# Altium schematic symbol library CornellBajaLibrary.SchLib: 160 symbols (part 2 of 2)
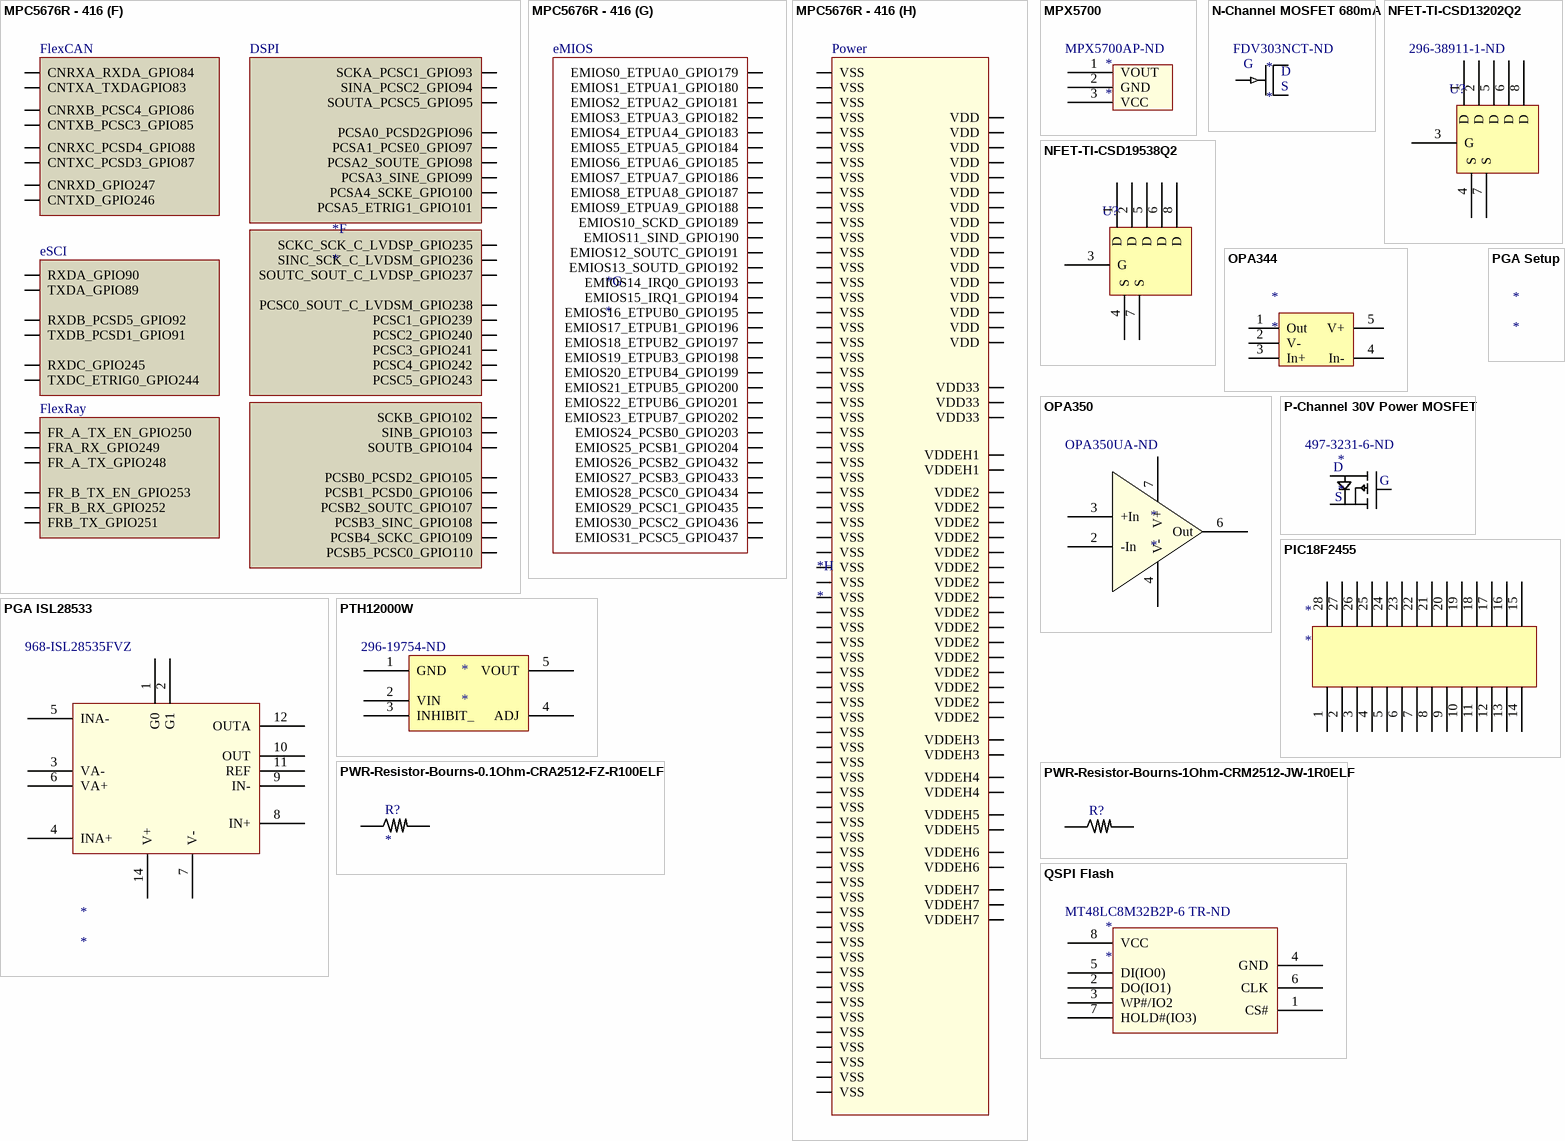
[diagram p10: symbols MPC5676R - 416 to QSPI Flash]

## MPX5700
designator *  Supplier Part Number 1: MPX5700AP-ND
Supplier 1: Digi-Key
footprint MPX5700AP
pins: 1 VOUT, 2 GND, 3 VCC

## N-Channel MOSFET 680mA
designator *  Supplier Part Number 1: FDV303NCT-ND
Supplier 1: Digi-Key
footprint N-Channel MOSFET 680mA (FDV303N)
pins: 1 G, 2 D, 3 S

## NFET-TI-CSD13202Q2
designator U?  Supplier Part Number 1: 296-38911-1-ND  (hidden comment: *)
Supplier 1: Digi-Key
footprint SON2x2
pins: 1 D, 2 D, 3 G, 4 S, 5 D, 6 D, 7 S, 8 D

## NFET-TI-CSD19538Q2
designator U?  (value not drawn)
Supplier 1: Digi-Key; Supplier Part Number 1: 296-47322-1-ND
footprint SON2x2
pins: 1 D, 2 D, 3 G, 4 S, 5 D, 6 D, 7 S, 8 D

## OPA344
designator *
footprint OPA344
pins: 1 Out, 2 V-, 3 In+, 4 In-, 5 V+

## OPA350
designator *  Supplier Part Number 1: OPA350UA-ND
High Speed A/D Buffer; Supplier 1: Digi-Key; ComponentLink1URL: http://www.ti.com/lit/ds/symlink/opa350.pdf; ComponentLink1Description: http://www.ti.com/lit/ds/symlink/opa350.pdf
footprint SOIC127P600X175-8N (SOIC, 8-Leads, Body 5.0x4.0mm (max), Pitch 1.27mm, IPC Medium Density)
pins: 2 -In, 3 +In, 4 V-, 6 Out, 7 V+

## P-Channel 30V Power MOSFET
designator *  Supplier Part Number 1: 497-3231-6-ND
Supplier 1: Digi-Key; ComponentLink1URL: http://www.st.com/web/en/resource/technical/document/datasheet/CD00001945.pdf; ComponentLink1Description: http://www.st.com/web/en/resource/technical/document/datasheet/CD00001945.pdf
footprint P-FET Power (STS5PF30L 5A)
pins: 1 G, 2 D, 3 S

## PGA ISL28533
designator *  Supplier Part Number 1: 968-ISL28535FVZ
Supplier 1: Mouser
footprint TSOP65P640X120-14N (TSOP, 14-Leads, Body 5.00x4.40mm, Pitch 0.65mm, IPC Medium Density)
pins: 1 G0, 2 G1, 3 VA-, 4 INA+, 5 INA-, 6 VA+, 7 V-, 8 IN+, 9 IN-, 10 OUT, 11 REF, 12 OUTA, 14 V+

## PGA Setup
designator *

## PIC18F2455
designator *
footprint PIC18F2455_28Lead_SMD
pins: 1, 2, 3, 4, 5, 6, 7, 8, 9, 10, 11, 12, 13, 14, 15, 16, 17, 18, 19, 20, 21, 22, 23, 24, 25, 26, 27, 28

## PTH12000W
designator *  Supplier Part Number 1: 296-19754-ND
Adj 6A 12Vin Power Module; ComponentLink1URL: http://www.ti.com/lit/ds/symlink/pth12000l.pdf; ComponentLink1Description: http://www.ti.com/lit/ds/symlink/pth12000l.pdf; Supplier 1: Digi-Key
footprint PowerModule
pins: 1 GND, 2 VIN, 3 INHIBIT_, 4 ADJ, 5 VOUT

## PWR-Resistor-Bourns-0.1Ohm-CRA2512-FZ-R100ELF
designator R?
Supplier 1: Digi-Key; Supplier Part Number 1: CRA2512-FZ-R100ELFCT-ND
footprint 2512
pins: 1, 2

## PWR-Resistor-Bourns-1Ohm-CRM2512-JW-1R0ELF
designator R?  (value not drawn)
Supplier 1: Digi-Key; Supplier Part Number 1: CRM2512-JW-1R0ELFCT-ND
footprint 2512
pins: 1, 2

## QSPI Flash
designator *  Supplier Part Number 1: MT48LC8M32B2P-6 TR-ND
Supplier 1: Digi-Key
footprint S25FL032P (SOIC, 8-Leads, Body 5.28x4.64mm, Pitch 1.27mm, IPC Medium Density)
pins: 1 CS#, 2 DO(IO1), 3 WP#/IO2, 4 GND, 5 DI(IO0), 6 CLK, 7 HOLD#(IO3), 8 VCC

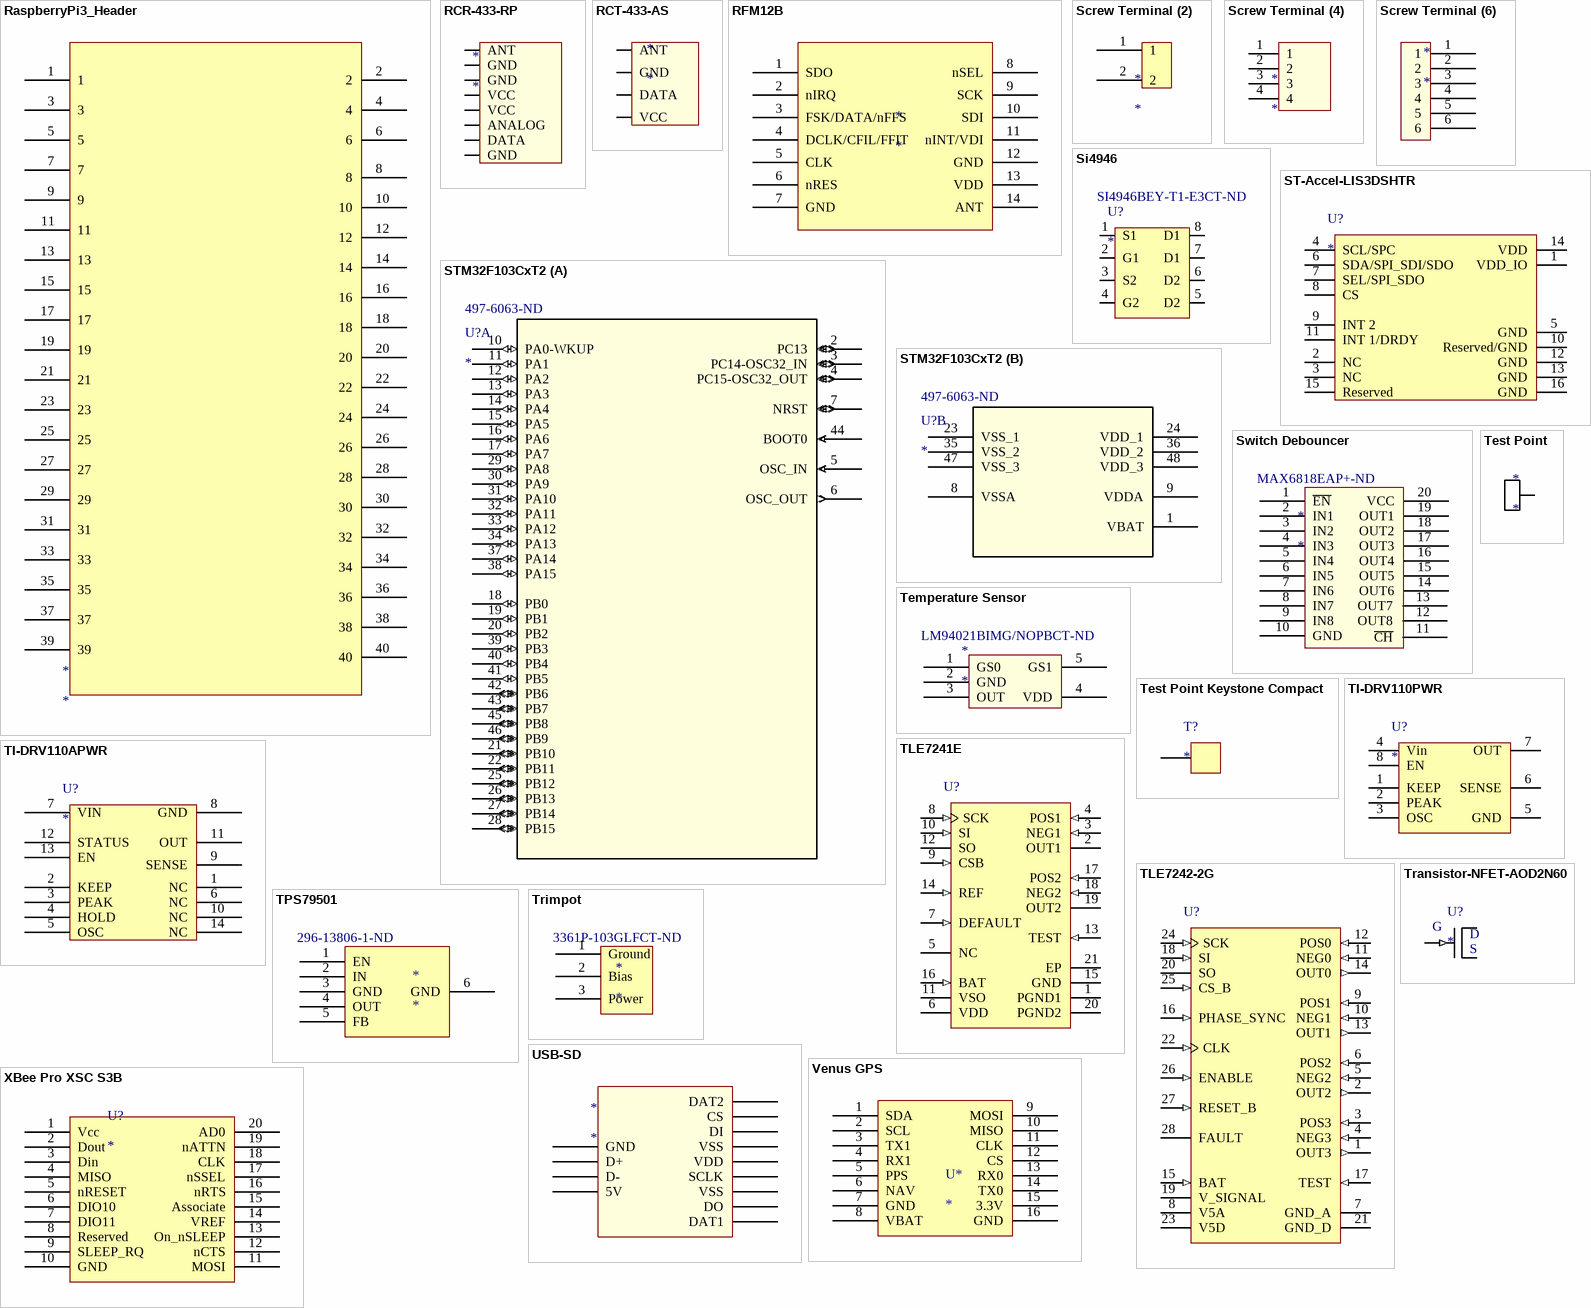
[diagram p9: symbols RaspberryPi3_Header to XBee Pro XSC S3B]

## RaspberryPi3_Header
designator *
footprint HDR2X20 (Footprint not found)
pins: 1, 2, 3, 4, 5, 6, 7, 8, 9, 10, 11, 12, 13, 14, 15, 16, 17, 18, 19, 20, 21, 22, 23, 24, 25, 26, 27, 28, 29, 30, 31, 32, 33, 34, 35, 36, 37, 38, 39, 40

## RCR-433-RP
designator *
pins: 1 ANT, 2 GND, 3 GND, 4 VCC, 5 VCC, 6 ANALOG, 7 DATA, 8 GND

## RCT-433-AS
designator *
footprint RCT-433
pins: 1 ANT, 2 GND, 3 DATA, 4 VCC

## RFM12B
designator *
footprint RFM12B
pins: 1 SDO, 2 nIRQ, 3 FSK/DATA/nFFS, 4 DCLK/CFIL/FFIT, 5 CLK, 6 nRES, 7 GND, 8 nSEL, 9 SCK, 10 SDI, 11 nINT/VDI, 12 GND, 13 VDD, 14 ANT

## Screw Terminal (2)
designator *
footprint Terminal Block 2
pins: 1, 2

## Screw Terminal (4)
designator *
footprint Terminal Block 4
pins: 1, 2, 3, 4

## Screw Terminal (6)
designator *
footprint Terminal Block 6
pins: 1, 2, 3, 4, 5, 6

## Si4946
designator U?  Supplier Part Number 1: SI4946BEY-T1-E3CT-ND
Supplier 1: Digi-Key
footprint S0-8
pins: 1 S1, 2 G1, 3 S2, 4 G2, 5 D2, 6 D2, 7 D1, 8 D1

## ST-Accel-LIS3DSHTR
designator U?
Supplier 1: Digi-Key; Supplier Part Number 1: 497-13244-1-ND
footprint LGA-16
pins: 1 VDD_IO, 2 NC, 3 NC, 4 SCL/SPC, 5 GND, 6 SDA/SPI_SDI/SDO, 7 SEL/SPI_SDO, 8 CS, 9 INT 2, 10 Reserved/GND, 11 INT 1/DRDY, 12 GND, 13 GND, 14 VDD, 15 Reserved, 16 GND

## STM32F103CxT2
designator U?  Supplier Part Number 1: 497-6063-ND
Imported; Manufacturer_Part_Number: stm32f103cxt2; Vendor: STMicroelectronics; C: Copyright (C) 2016 Accelerated Designs. All rights reserved; Copyright: Copyright (C) 2016 Accelerated Designs. All rights reserved; Value: Value; Type: Type; RefDes: RefDes; Supplier 1: Digi-Key
footprint LQFP48_7x7mm
part A pins: 2 PC13 (io), 3 PC14-OSC32_IN (io), 4 PC15-OSC32_OUT (io), 5 OSC_IN (in), 6 OSC_OUT (out), 7 NRST (io), 10 PA0-WKUP (io), 11 PA1 (io), 12 PA2 (io), 13 PA3 (io), 14 PA4 (io), 15 PA5 (io), 16 PA6 (io), 17 PA7 (io), 18 PB0 (io), 19 PB1 (io), 20 PB2 (io), 21 PB10 (io), 22 PB11 (io), 25 PB12 (io), 26 PB13 (io), 27 PB14 (io), 28 PB15 (io), 29 PA8 (io), 30 PA9 (io), 31 PA10 (io), 32 PA11 (io), 33 PA12 (io), 34 PA13 (io), 37 PA14 (io), 38 PA15 (io), 39 PB3 (io), 40 PB4 (io), 41 PB5 (io), 42 PB6 (io), 43 PB7 (io), 44 BOOT0 (in), 45 PB8 (io), 46 PB9 (io)
part B pins: 1 VBAT (power), 8 VSSA (power), 9 VDDA (power), 23 VSS_1 (power), 24 VDD_1 (power), 35 VSS_2 (power), 36 VDD_2 (power), 47 VSS_3 (power), 48 VDD_3 (power)

## Switch Debouncer
designator *  Supplier Part Number 1: MAX6818EAP+-ND
Supplier 1: Digi-Key
footprint SOP65P780X199-20N (SOP, 20-Leads, Body 7.3x5.4mm (max), Pitch 0.65mm, IPC Medium Density)
pins: 1 ~{EN}, 2 IN1, 3 IN2, 4 IN3, 5 IN4, 6 IN5, 7 IN6, 8 IN7, 9 IN8, 10 GND, 11 ~{CH}, 12 OUT8, 13 OUT7, 14 OUT6, 15 OUT5, 16 OUT4, 17 OUT3, 18 OUT2, 19 OUT1, 20 VCC

## Temperature Sensor
designator *  Supplier Part Number 1: LM94021BIMG/NOPBCT-ND
Supplier 1: Digi-Key
footprint SOT65P210X110-5N (SOT23, 5-Leads, Body 2.2x2.4mm (max), Pitch 0.65mm, IPC Medium Density)
pins: 1 GS0, 2 GND, 3 OUT, 4 VDD, 5 GS1

## Test Point
designator *
Supplier 1: Digi-Key; Supplier Part Number 1: 5019KCT-ND
footprint Test Point
pins: 1

## Test Point Keystone Compact
designator T?
Supplier 1: Digi-Key; Supplier Part Number 1: 36-5006-ND
footprint Keystone Test Point Compact
pins: 1 "TestPoint"

## TI-DRV110APWR
designator U?
Supplier 1: Digi-Key; Supplier Part Number 1: 296-30453-1-ND
footprint TSSOP14
pins: 1 NC, 2 KEEP, 3 PEAK, 4 HOLD, 5 OSC, 6 NC, 7 VIN, 8 GND, 9 SENSE, 10 NC, 11 OUT, 12 STATUS, 13 EN, 14 NC

## TI-DRV110PWR
designator U?
Supplier 1: Digi-Key; Supplier Part Number 1: 296-30454-1-ND
footprint TSSOP-8
pins: 1 KEEP, 2 PEAK, 3 OSC, 4 Vin, 5 GND, 6 SENSE, 7 OUT, 8 EN

## TLE7241E
designator U?
Constant Current Control Solenoid Driver, 2 Channels, 9 to18 V Supply, PG-DSO-20-27, Green; Manufacturer: Infineon; PartNumber: TLE7241E; Channels: 2; Green: TRUE; Operating Range: 9 to18 V; Output Current: 1.2 A; Quiescent Current (max.): 1 mA; SPI: 16 Bit; DatasheetVersion: Rev. 1.1; PackageVersion: Apr-09; PackageReference: PG-DSO-20-27; PackageDescription: 20-Pin Plastic (Green) Dual Small Outline Package, 12.7 x 7.5 mm Body, 1.27 mm Pitch; Supplier 1: Digi-Key; Supplier Part Number 1: TLE7241EINTR-ND; Supplier 2: Digi-Key; Supplier Part Number 2: TLE7241EINCT-ND; Supplier 3: Digi-Key; Supplier Part Number 3: TLE7241EINDKR-ND; Supplier 4: Mouser; Supplier Part Number 4: N/A; Halogen-free: TRUE; Mounting Technology: Surface Mount; ComponentLink1Description: Manufacturer URL; ComponentLink1URL: http://www.infineon.com/; ComponentLink2Description: Datasheet; ComponentLink2URL: http://www.infineon.com/dgdl/TLE7241E_DS_11.pdf?folderId=db3a30431400ef68011421b54e2e0564&fileId=db3a3043183a955501184187d31f75e7&sId=db3a30433d68e984013d7f315259625c; ComponentLink3Description: Package Specification; ComponentLink3URL: http://www.infineon.com/dgdl/PG-DSO-20-27%2C-30-Package_Overview.pdf?folderId=db3a30431b0626df011b0b56b8d37d27&fileId=db3a30431c69a49d011c9eab3ee707b8
footprint INF-PG-DSO-20-27_N (SOP, 20-Leads, Body 12.7x7.5mm, Pitch 1.27mm, Thermal Pad 5.2X4.6mm, IPC Medium Density)
footprint INF-PG-DSO-20-27_L (SOP, 20-Leads, Body 12.7x7.5mm, Pitch 1.27mm, Thermal Pad 5.2X4.6mm, IPC High Density)
footprint INF-PG-DSO-20-27_M (SOP, 20-Leads, Body 12.7x7.5mm, Pitch 1.27mm, Thermal Pad 5.2X4.6mm, IPC Low Density)
footprint INF-PG-DSO-20-27_L (SOP, 20-Leads, Body 12.7x7.5mm, Pitch 1.27mm, Thermal Pad 5.2X4.6mm, IPC High Density)
footprint INF-PG-DSO-20-27_M (SOP, 20-Leads, Body 12.7x7.5mm, Pitch 1.27mm, Thermal Pad 5.2X4.6mm, IPC Low Density)
footprint INF-PG-DSO-20-27_N (SOP, 20-Leads, Body 12.7x7.5mm, Pitch 1.27mm, Thermal Pad 5.2X4.6mm, IPC Medium Density)
pins: 1 PGND1 (power) "Power Ground Channel 1; internally connected to PGND2", 2 OUT1 (power) "Output Channel 1; Drain of Output DMOS; connect to negative terminal of external sense resistor", 3 NEG1 (in) "Negative Sense Pin Channel 1; connect to negative terminal of external sense resistor with dedicated trace", 4 POS1 (in) "Positive Sense Pin Channel 1; connect to positive terminal of external sense resistor with dedicated trace", 5 NC "Not Connected; not bonded internally", 6 VDD (power) "Logic Supply Voltage; connect a ceramic capacitor to GND near the device", 7 DEFAULT (in) "Control Input; Active high digital input. 3.3V and 5.0V logic compatible. In case of not used, connect to ground", 8 SCK (in) "SPI Clock; Digital input pin. 3.3V and 5.0V logic compatible", 9 CSB (in) "Chip Select Bar; Active low digital input pin. 3.3V and 5.0V logic compatible", 10 SI (in) "Serial Data Input; 3.3V and 5.0V logic compatible", 11 VSO (power) "SPI Supply Voltage; connect a ceramic capacitor to GND near the device", 12 SO (hiz) "Serial Data Output; Supplied by Vso pin", 13 TEST (in) "Test Pin; connect to GND", 14 REF (in) "Voltage Reference; connect to external 2.5 V reference, or connect to GND to enable internal reference.", 15 GND (power) "Ground; signal ground", 16 BAT (in) "BAT Input; connect to the solenoid supply voltage through a series resistor. Connect a ceramic capacitor to GND near the device", 17 POS2 (in) "Positive Sense Pin Channel 2; connect to positive terminal of external sense resistor with dedicated trace", 18 NEG2 (in) "Negative Sense Pin Channel 2; connect to negative terminal of external sense resistor with dedicated trace", 19 OUT2 (power) "Output Channel 2; Drain of Output DMOS; connect to negative terminal of external sense resistor", 20 PGND2 (power) "Power Ground Channel 2; internally connected to PGND1", 21 EP (power) "GND; Should be connected to GND, PGND1 and PGND2 and to the ground plane of the ECU"

## TLE7242-2G
designator U?
4 Channels Fixed Frequency Constant Current Control IC, 5.5 to 42 V Operating Range, PG-DSO-28-1, Reel, Green; Manufacturer: Infineon; PartNumber: TLE7242-2G; Channels: 4; Green: TRUE; Quiescent Current (max.): 0,005 mA; SPI: 32 Bit; DatasheetVersion: Rev. 1.1; PackageVersion: May-11; PackageReference: PG-DSO-28-1; PackageDescription: 28-Pin Plastic (Green) Dual Small Outline Package, 17.9 x 7.5 mm Body, 1.27 mm Pitch; Supplier 1: Digi-Key; Supplier Part Number 1: TLE7242-2G-ND; Supplier 2: Mouser; Supplier Part Number 2: 726-TLE72422G; Halogen-free: TRUE; Operating Range: 5.5 to 42 V; Packing: Reel; Mounting Technology: Surface Mount; ComponentLink1Description: Manufacturer URL; ComponentLink1URL: http://www.infineon.com/; ComponentLink2Description: Datasheet; ComponentLink2URL: http://www.infineon.com/dgdl/TLE7242-2G-Data-Sheet_11.pdf?folderId=db3a30431400ef68011421b54e2e0564&fileId=db3a30431ed1d7b2011eee8d146f5480&sId=db3a30443d67b5ca013d800a7dd52c12; ComponentLink3Description: Package Specification; ComponentLink3URL: http://www.infineon.com/dgdl/TLE7242-2G-Data-Sheet_11.pdf?folderId=db3a30431400ef68011421b54e2e0564&fileId=db3a30431ed1d7b2011eee8d146f5480&sId=db3a30443d67b5ca013d800a7dd52c12
footprint INF-PG-DSO-28-1_N (SOP, 28-Leads, Body 17.9x7.5mm, Pitch 1.27mm, IPC Medium Density)
footprint INF-PG-DSO-28-1_L (SOP, 28-Leads, Body 17.9x7.5mm, Pitch 1.27mm, IPC High Density)
footprint INF-PG-DSO-28-1_M (SOP, 28-Leads, Body 17.9x7.5mm, Pitch 1.27mm, IPC Low Density)
pins: 1 OUT3 (out) "Gate driver output for channel #3. Connect to the gate of the external MOSFET.", 2 OUT2 (out) "Gate driver output for channel #2. Connect to the gate of the external MOSFET.", 3 POS3 (in) "Channel #3 Positive sense pin. Connect to the "load" side of the external sense resistor.", 4 NEG3 (in) "Channel #3 Negative sense pin. Connect to the "FET" side of the external sense resistor.", 5 NEG2 (in) "Channel #2 Negative sense pin. Connect to the "FET" side of the external sense resistor.", 6 POS2 (in) "Channel #2 Positive sense pin. Connect to the "load" side of the external sense resistor.", 7 GND_A (power) "Analog Ground", 8 V5A (power) "5V supply pin for analog. An external capacitor is to be connected between this pin and GND_A near this pin.", 9 POS1 (in) "Channel #1 Positive sense pin. Connect to the "load" side of the external sense resistor.", 10 NEG1 (in) "Channel #1 Negative sense pin. Connect to the "FET" side of the external sense resistor.", 11 NEG0 (in) "Channel #0 Negative sense pin. Connect to the "FET" side of the external sense resistor.", 12 POS0 (in) "Channel #0 Positive sense pin. Connect to the "load" side of the external sense resistor.", 13 OUT1 (out) "Gate driver output for channel #1. Connect to the gate of the external MOSFET.", 14 OUT0 (out) "Gate driver output for channel #0. Connect to the gate of the external MOSFET.", 15 BAT (in) "Battery sense input for over voltage detection. Connect through a series resistor (e.g. 1 Kohm) to the solenoid supply voltage. A large electrolytic capacitor (e.g. 47uF) should be placed between the BAT supply and ground.", 16 PHASE_SYNC (in) "Used to synchronize the rising edges of the PWM signal on the OUTx pins for each channel.", 17 TEST (in) "Used for IC Test. Must be connected to GND_D for specified operation of the IC.", 18 SI (in) "SPI Serial data in", 19 V_SIGNAL (power) "Supply pin for the SPI SO output and the pull-ups of the digital inputs CS_B and RESET_B. An external capacitor must be connected between this pin and GND_D near this pin.", 20 SO (hiz) "SPI Serial data out", 21 GND_D (power) "GND pin for digital and driver circuitry.", 22 CLK (in) "Main clock input for the IC. A clock input of 20 MHz to 40 MHz is required.", 23 V5D (power) "5V supply pin for the digital circuit blocks and the OUT pin driver circuits. A pair of external capacitors is to be connected between this pin and GND_D very near this pin. Example values of the external capacitors are (See Datasheet)", 24 SCK (in) "SPI Clock input", 25 CS_B (in) "SPI Chip Select Bar (low active signal)", 26 ENABLE (in) "When this input pin is low all channels are turned off (zero current) or remain in their last state, depending on how the channel is programmed to respond", 27 RESET_B (in) "When this input pin is low all channels are turned off and all internal registers are reset to their default state. The part must be held in reset by an external source until all supplies are stable and within tolerance.", 28 FAULT (oc) "This open drain output pin is pulled low when a fault condition is detected. Certain faults can be masked via SPI."

## TPS79501
designator *  Supplier Part Number 1: 296-13806-1-ND
Low noise Adjustable LDO; Supplier 1: Digi-Key; ComponentLink1URL: http://www.ti.com/lit/ds/symlink/tps79501.pdf; ComponentLink1Description: http://www.ti.com/lit/ds/symlink/tps79501.pdf
footprint SOT127P706X180-6N (SOT223, 6-Leads, Body 6.6x7.3mm (max), Pitch 1.27mm, IPC Medium Density)
pins: 1 EN, 2 IN, 3 GND, 4 OUT, 5 FB, 6 GND

## Transistor-NFET-AOD2N60
designator U?
Supplier 1: Digi-Key; Supplier Part Number 1: 785-1180-1-ND
footprint TO252_DPAK
pins: 1 G, 2 D, 3 S

## Trimpot
designator *  Supplier Part Number 1: 3361P-103GLFCT-ND
Supplier 1: Digi-Key
footprint TrimPot
pins: 1 Ground, 2 Bias, 3 Power

## USB-SD
designator *
footprint SD-USB; pin to pad 5V>4 CS>6 D+>2 D->3 DAT1>13 DAT2>5 DI>7 DO>12 GND>1 SCLK>10 VDD>9 VSS>8
pins: 5V, CS, D+, D-, DAT1, DAT2, DI, DO, GND, SCLK, VDD, VSS, VSS

## Venus GPS
designator U*
Venus GPS Board from Sparkfun
footprint Venus GPS
pins: 1 SDA, 2 SCL, 3 TX1, 4 RX1, 5 PPS, 6 NAV, 7 GND, 8 VBAT, 9 MOSI, 10 MISO, 11 CLK, 12 CS, 13 RX0, 14 TX0, 15 3.3V, 16 GND

## XBee Pro XSC S3B
designator U?
footprint XBee Pro
pins: 1 Vcc, 2 Dout, 3 Din, 4 MISO, 5 nRESET, 6 DIO10, 7 DIO11, 8 Reserved, 9 SLEEP_RQ, 10 GND, 11 MOSI, 12 nCTS, 13 On_nSLEEP, 14 VREF, 15 Associate, 16 nRTS, 17 nSSEL, 18 CLK, 19 nATTN, 20 AD0